# EAGLE library part AVR128DA32 (library m_microcontroller)
AVR128DA28/32/48/64(S) AVR® DA family Introduction The AVR128DA28/32/48/64(S) microcontrollers are members of the AVR® DA family, using the AVR® CPU with hardware multiplier, running at up to 24 MHz, with 128 KB Flash, 16 KB SRAM, and 512B EEPROM in 28-, 32-, 48-, or 64-pin packages. The AVR® DA(S) family uses a flexible, low-power architecture with Event System, intelligent analog features, advanced digital peripherals, and Peripheral Touch Controller (PTC). Features CPU AVR® CPU Running at up to 24 MHz Single-cycle I/O access Two-level interrupt controller Two-cycle hardware multiplier Supply voltage range: 1.8V to 5.5V Memories 128 KB In-System self-programmable Flash memory 512B EEPROM 16 KB SRAM 32B user row in nonvolatile memory (retained through chip-erase) Write/erase endurance: Flash 10,000 cycles, EEPROM 100,000 cycles Data retention: 40 years at 55°C System Power-on Reset (POR) Brown-out Detector (BOD) Clock options: High-precision internal high-frequency oscillator up to 24 MHz (OSCHF) Internal PLL up to 48 MHz for Timer/Counter type D operation 32.768 kHz Ultra Low-Power internal oscillator (OSC32K) 32.768 kHz external crystal oscillator (XOSC32K) External clock input Single-pin Unified Program and Debug Interface (UPDI) Three sleep modes: Idle with all peripherals running for immediate wake-up Standby Power-Down with full data retention Configurable operation of selected peripherals Peripherals Up to two 16-bit Timer/Counter type A (TCA) with dedicated period register and three PWM channels Up to five 16-bit Timer/Counter type B (TCB) with input capture and simple PWM functionality One 12-bit Timer/Counter type D (TCD) optimized for power control One 16-bit Real-Time Counter (RTC) Up to six USART with fractional baud rate generator, auto-baud, and start-of-frame detection Two master/slave Serial Peripheral Interface (SPI) Up to two Two-Wire Interface (TWI) with dual address match Independent master and slave operation (Dual mode) Philips I2C compatible Standard mode (Sm, 100 kHz) Fast mode (Fm, 400 kHz) Fast mode plus (Fm+, 1 MHz) Event System (EVSYS) for CPU-independent inter-peripheral signaling Configurable Custom Logic (CCL) with up to six programmable LUTs One 12-bit differential 130 ksps Analog-to-Digital Converter (ADC) Three Analog Comparators (AC) with window compare One 10-bit Digital-to-Analog Converter (DAC) Up to three Zero-Cross Detectors (ZCD) Multiple voltage references (VREF): 1.024V 2.048V 2.500V 4.096V Peripheral Touch Controller (PTC) with Driven Shield+ and Boost Mode Capacitive touch buttons, sliders, wheels and 2D surfaces Up to 46 self-capacitance channels Up to 529 mutual-capacitance channels Automated CRC Flash memory scan Watchdog Timer (WDT) with Window mode and separate on-chip oscillator External interrupt on all general purpose pins I/O and Packages Up to 55 programmable I/O pins 28-pin SPDIP, SSOP, SOIC 32-pin VQFN 5x5 mm, TQFP 7x7 mm 48-pin VQFN 6x6 mm, TQFP 7x7 mm 64-pin VQFN 9x9 mm, TQFP 10x10 mm Temperature ranges: Industrial: -40°C to +85°C Extended: -40°C to +125°C Octopart Search <https://octopart.com/search?q=avr128da*> Added 2026-03-08
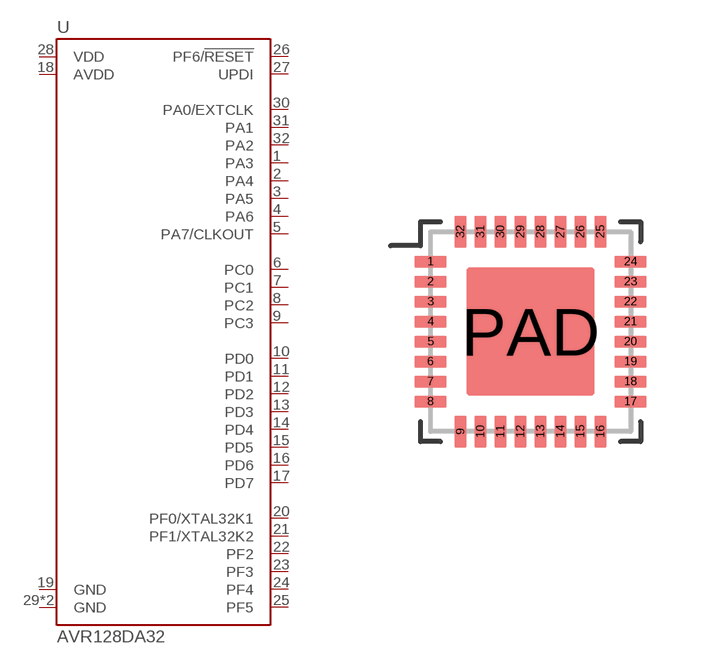
[diagram p4: symbol with the pads of VQFN32; footprint VQFN32]

Designator prefix U

## AVR128DA32/RXB (MANUF: Microchip; PARTNUM: AVR128DA32*-*/RXB; VALUE: AVR128DA32)  [VQFN32]
1  PA3  pas
2  PA4  pas
3  PA5  pas
4  PA6  pas
5  PA7/CLKOUT  pas
6  PC0  pas
7  PC1  pas
8  PC2  pas
9  PC3  pas
10  PD0  pas
11  PD1  pas
12  PD2  pas
13  PD3  pas
14  PD4  pas
15  PD5  pas
16  PD6  pas
17  PD7  pas
18  AVDD  pas
19  GND  pas
20  PF0/XTAL32K1  pas
21  PF1/XTAL32K2  pas
22  PF2  pas
23  PF3  pas
24  PF4  pas
25  PF5  pas
26  PF6/!RESET  pas
27  UPDI  pas
28  VDD  pas
29  GND  pas
30  PA0/EXTCLK  pas
31  PA1  pas
32  PA2  pas
PAD  GND  pas

## Footprint VQFN32 (pad centres in mm)
32-Lead Very Thin Plastic Quad Flat, No Lead Package (RXB) - 5x5x0.9 mm Body [VQFN] With 3.1x3.1 mm Exposed Pad; Atmel Legacy Global Package Code ZMF Microchip document DS40002183E Added 2026-03-08
smd 0.8 x 0.3: 1 -2.5,1.75; 2 -2.5,1.25; 3 -2.5,0.75; 4 -2.5,0.25; 5 -2.5,-0.25; 6 -2.5,-0.75; 7 -2.5,-1.25; 8 -2.5,-1.75; 17 2.5,-1.75; 18 2.5,-1.25; 19 2.5,-0.75; 20 2.5,-0.25; 21 2.5,0.25; 22 2.5,0.75; 23 2.5,1.25; 24 2.5,1.75
smd 0.3 x 0.8: 9 -1.75,-2.5; 10 -1.25,-2.5; 11 -0.75,-2.5; 12 -0.25,-2.5; 13 0.25,-2.5; 14 0.75,-2.5; 15 1.25,-2.5; 16 1.75,-2.5; 25 1.75,2.5; 26 1.25,2.5; 27 0.75,2.5; 28 0.25,2.5; 29 -0.25,2.5; 30 -0.75,2.5; 31 -1.25,2.5; 32 -1.75,2.5
smd 3.2 x 3.2: PAD 0,0